# EAGLE library part AUDIO_AMPLIFIER (library hsa_stm32_discovery_board)
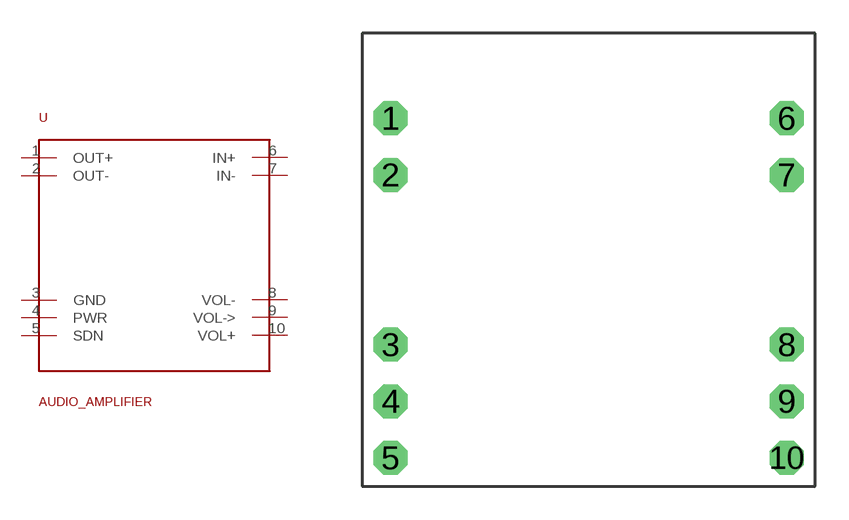
[diagram p0: symbol with the pads of AUDIO_AMPLIFIER; footprint AUDIO_AMPLIFIER]

Designator prefix -

## AUDIO_AMPLIFIER  [AUDIO_AMPLIFIER]
1  OUT+
2  OUT-
3  GND
4  PWR
5  SDN
6  IN+
7  IN-
8  VOL-
9  VOL->
10  VOL+

## Footprint AUDIO_AMPLIFIER (pad centres in mm)
drill 1.016 octagon: 1 1.27,16.51; 2 1.27,13.97; 3 1.27,6.35; 4 1.27,3.81; 5 1.27,1.27; 6 19.05,16.51; 7 19.05,13.97; 8 19.05,6.35; 9 19.05,3.81; 10 19.05,1.27